# EAGLE library part EZ-BLEPROC (library EZBLE-PRoC)
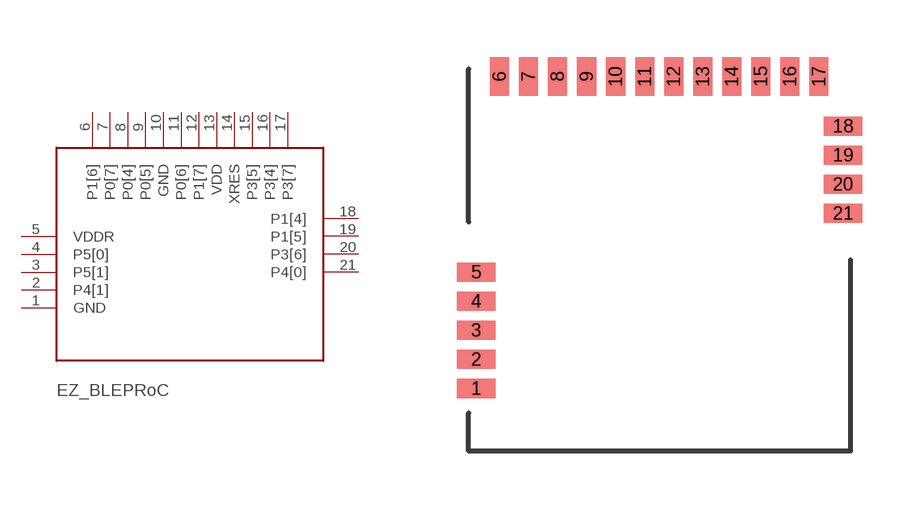
[diagram p0: symbol with the pads of EZ-BLEPROC; footprint EZ-BLEPROC]

Designator prefix U$

## EZ-BLEPROC  [EZ-BLEPROC]
1  GND
2  P4[1]
3  P5[1]
4  P5[0]
5  VDDR
6  P1[6]
7  P0[7]
8  P0[4]
9  P0[5]
10  GND
11  P0[6]
12  P1[7]
13  VDD
14  XRES
15  P3[5]
16  P3[4]
17  P3[7]
18  P1[4]
19  P1[5]
20  P3[6]
21  P4[0]

## Footprint EZ-BLEPROC (pad centres in mm)
smd 1 x 0.5: 1 -4.8,-3.36; 2 -4.8,-2.6; 3 -4.8,-1.84; 4 -4.8,-1.08; 5 -4.8,-0.32; 18 4.8,3.5; 19 4.8,2.74; 20 4.8,1.98; 21 4.8,1.22
smd 0.5 x 1: 6 -4.19,4.8; 7 -3.43,4.8; 8 -2.67,4.8; 9 -1.91,4.8; 10 -1.15,4.8; 11 -0.39,4.8; 12 0.37,4.8; 13 1.13,4.8; 14 1.89,4.8; 15 2.65,4.8; 16 3.41,4.8; 17 4.17,4.8